# EAGLE library part XFORMER (library crystalsmt)
TRANSFORMER 2 x primary, 2 x secondary
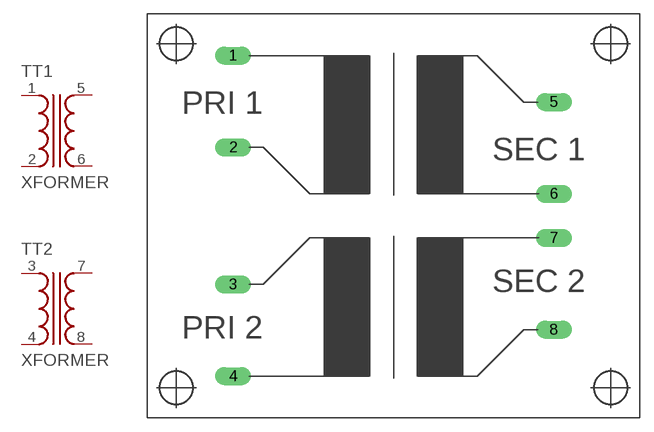
[diagram p0: symbol with the pads of T70-E; footprint T70-E]

Designator prefix T; gates T1=XFORMER T2=XFORMER

## XFORMER  [T70-E]
1  T1:P1  pas
2  T1:P2  pas
3  T2:P1  pas
4  T2:P2  pas
5  T1:S1  pas
6  T1:S2  pas
7  T2:S1  pas
8  T2:S2  pas

## Footprint T70-E (pad centres in mm)
TRANSFORMER 2 x primary 2 x secondary
drill 1.321 long: 1 -17.526,17.526; 2 -17.526,7.493; 3 -17.526,-7.493; 4 -17.526,-17.526; 5 17.526,12.446; 6 17.526,2.413; 7 17.526,-2.413; 8 17.526,-12.446
hole 3.708 at 23.749,18.796
hole 3.708 at 23.749,-18.796
hole 3.708 at -23.749,-18.796
hole 3.708 at -23.749,18.796